# Altium footprint library DIODES.PcbLib: 1 footprints
Each footprint in its own frame and in the unit in brackets; x right, y up, seen from the top. Pads: shape width x height; smd on the part's side, far side on the other; paste and mask are expansions set on the pad; w line width, h text height; cw(c..) or ccw(c..) is an arc to the next point about the centre after c.
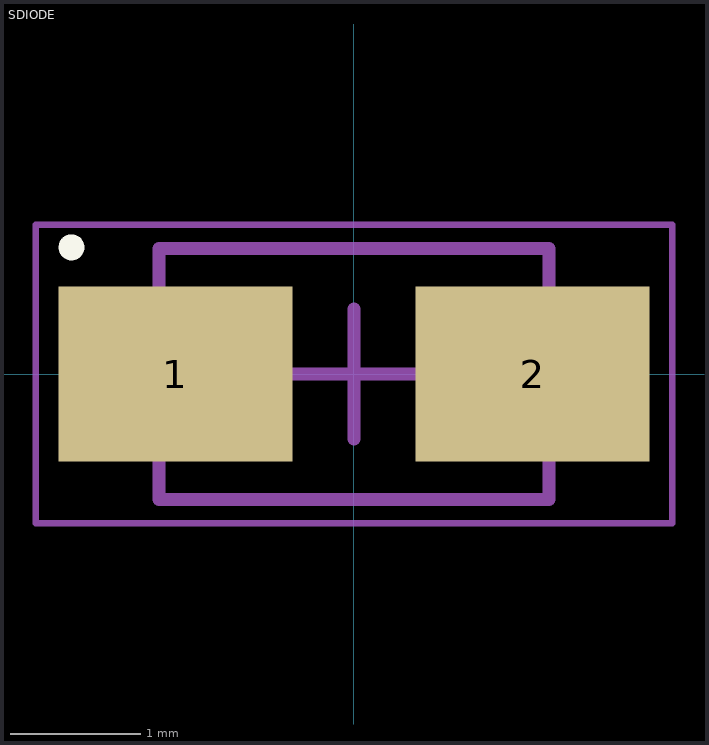
[diagram p0: the footprint, top view; thin cyan lines are the x and y axes]

## SDIODE [mm] "DFLS120LQ-7"
pads (2):
  rect 1.8x1.35 smd: 1(-1.375,0) 2(1.375,0)
Top Overlay:
  circle w0.1: c-2.175,0.975 r0.05
Top Assembly:
  lines w0.1: -1.5,-0.965 -1.5,0.965 1.5,0.965 1.5,-0.965 -1.5,-0.965
Top Courtyard:
  lines w0.05: -2.45,-1.15 -2.45,1.15 2.45,1.15 2.45,-1.15 -2.45,-1.15
  lines w0.1: -0.5,0 0.5,0 ; 0,-0.5 0,0.5
3D body "SODFL370X100-2M.step": height 1, standoff 0, extent -1.85,-0.965 1.85,0.965